# Altium schematic symbol library terminal block 6 pin.SchLib: 1 symbol
Pins are listed as number, name and electrical type; pins without a type are passive.

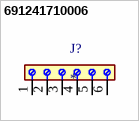
[diagram p0: symbol 691241710006]

## 691241710006
designator J?
6 Position Wire to Board Terminal Block Horizontal with Board 0.197 (5.00mm) Through Hole; MF: WÃ¼rth Elektronik; MP: 691241710006; SnapEDA_Link: https://www.snapeda.com/parts/691241710006/Wurth+Elektronik/view-part/?ref=snap; Package: None; Value: *; Check_prices: https://www.snapeda.com/parts/691241710006/Wurth+Elektronik/view-part/?ref=eda
footprint 691241710006
pins: 1, 2, 3, 4, 5, 6